# Altium schematic symbol library MCP73871T-2CCI_ML.SchLib: 1 symbol
Pins are listed as number, name and electrical type; pins without a type are passive.

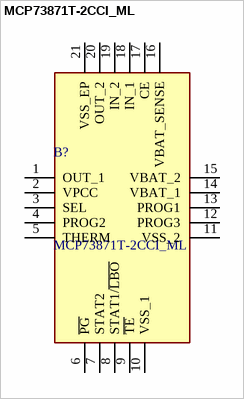
[diagram p0: symbol MCP73871T-2CCI_ML]

## MCP73871T-2CCI_ML
designator B?
MICROCHIP - MCP73871T-2CCI/ML - Battery Charger, 1 Cell of Li-Ion, Li-Pol Battery, 6V Input, 4.2V/1A Charge, QFN-20; Geometry.Height: 1mm; Manufacturer_Name: Microchip; Manufacturer_Part_Number: MCP73871T-2CCI/ML; Mouser Part Number: 579-MCP73871T2CCIML; Mouser Price/Stock: https://www.mouser.co.uk/ProductDetail/Microchip-Technology-Atmel/MCP73871T-2CCI-ML?qs=qXsUupcbpXwuQ8z0ISUvDA%3D%3D; Arrow Part Number: MCP73871T-2CCI/ML; Arrow Price/Stock: https://www.arrow.com/en/products/mcp73871t-2cciml/microchip-technology?region=nac; Datasheet Link: https://ms.componentsearchengine.com/Datasheets/2/MCP73871T-2CCI_ML.pdf
footprint QFN50P400X400X100-21N-D
pins: 1 OUT_1, 2 VPCC, 3 SEL, 4 PROG2, 5 THERM, 6 ~{PG}, 7 STAT2, 8 STAT1/~{LBO}, 9 ~{TE}, 10 VSS_1, 11 VSS_2, 12 PROG3, 13 PROG1, 14 VBAT_1, 15 VBAT_2, 16 VBAT_SENSE, 17 CE, 18 IN_1, 19 IN_2, 20 OUT_2, 21 VSS_EP